# Altium schematic symbol library Voltage Reg1.2.SchLib: 1 symbol
Pins are listed as number, name and electrical type; pins without a type are passive.

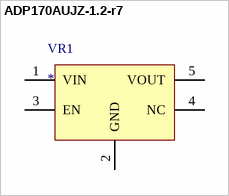
[diagram p0: symbol ADP170AUJZ-1.2-r7]

## ADP170AUJZ-1.2-r7
designator VR1
footprint VREG-1.2 (SOT23, 5-Leads, Body 2.90x2.80mm, Pitch 0.95mm, IPC Medium Density)
pins: 1 VIN, 2 GND, 3 EN, 4 NC, 5 VOUT